# Altium schematic symbol library G5V-2-DC12.Schlib: 1 symbol
Pins are listed as number, name and electrical type; pins without a type are passive.

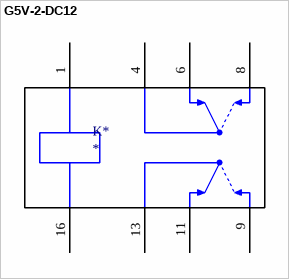
[diagram p0: symbol G5V-2-DC12]

## G5V-2-DC12
designator K*
General Purpose Non Latching 12VDC DPDT 2A Through Hole Relays RoHS; ComponentLink1Description: LCSC - Omron Electronics G5V-2-DC12; ComponentLink1URL: https://lcsc.com/product-detail/Relays_OMRON_G5V-2-12V_G5V-2-12V_C28089.html; LCSC Part #: C28089
footprint G5V-2-H1-5V
pins: 1, 4, 6, 8, 9, 11, 13, 16